# Altium footprint library QUAN.PcbLib: 216 footprints (part 12 of 14)
Each footprint in its own frame and in the unit in brackets; x right, y up, seen from the top. Pads: shape width x height; smd on the part's side, far side on the other; paste and mask are expansions set on the pad; w line width, h text height; cw(c..) or ccw(c..) is an arc to the next point about the centre after c.
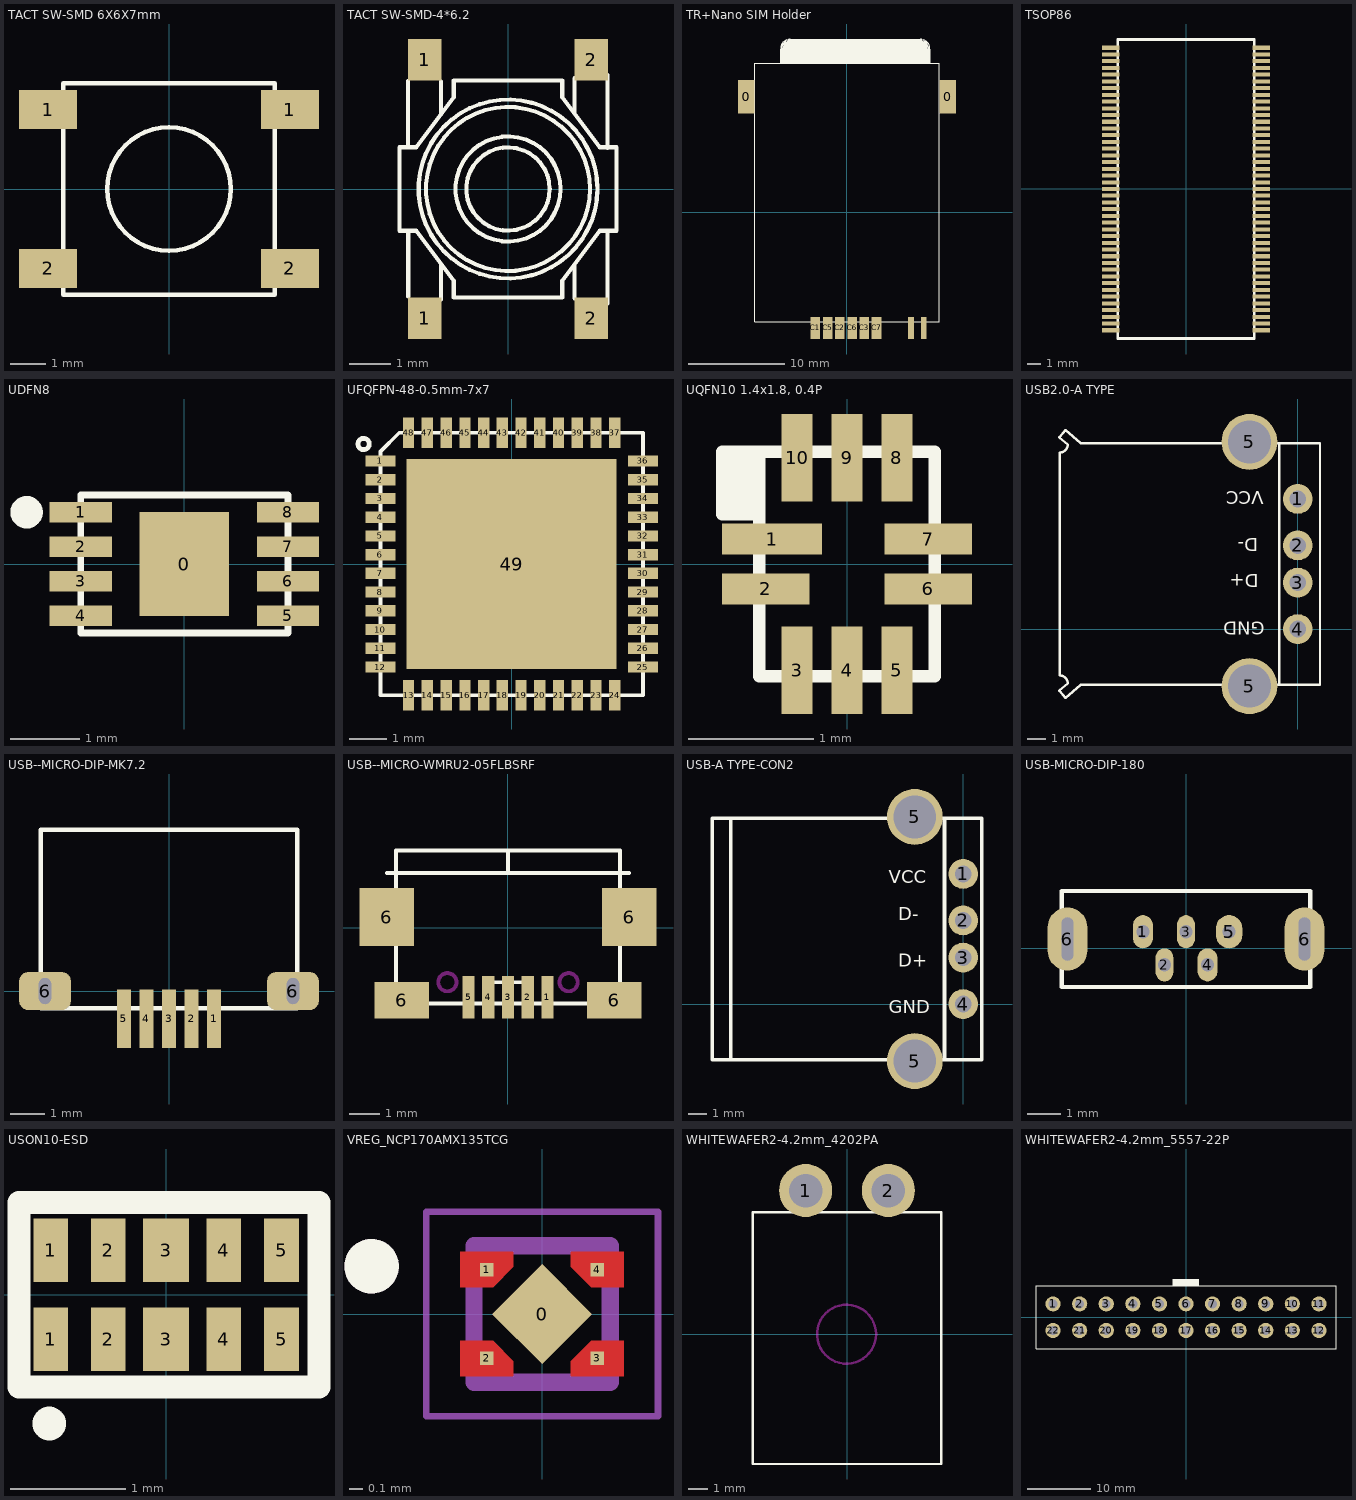
[diagram p11: the footprints below, top view; thin cyan lines are the x and y axes]

## TACT SW-SMD 6X6X7mm [mm] "TACT SW-SMD 6X6X7mm"
pads (4):
  rect 1.65x1.1 smd: 1(-3.425,2.25) 1(3.425,2.25) 2(-3.425,-2.25) 2(3.425,-2.25)
Top Overlay:
  circle w0.127: c0,0 r1.75
  lines w0.127: -3,-3 -3,3 3,3 3,-3 -3,-3

## TACT SW-SMD-4*6.2 [mm] "Switch-SMD-6x6mm"
pads (4):
  rect 0.8x1 smd: 1(-2,-3.1) 1(-2,3.1) 2(2,-3.1) 2(2,3.1)
Top Overlay:
  circle w0.1: c0,0 r1.969
  circle w0.1: c0,0 r2.146
  circle w0.1: c0,0 r1.26
  circle w0.1: c0,0 r1
  lines w0.1: -2.403,0.999 -2.403,2.593 ; -2.395,-2.578 -2.395,-1.009 ; -1.61,-2.656 -1.61,-1.794 ; -1.606,1.785 -1.606,2.582 ; 1.594,-2.623 1.594,-1.827 ; 1.594,1.809 1.594,2.66 ; 2.39,-2.744 2.39,-1.009 ; 2.39,0.991 2.39,2.737 ; -2.6,-1 -2.2,-1 -1.3,-2.2 -1.3,-2.6 1.3,-2.6 1.3,-2.2 2.2,-1 2.6,-1 2.6,1 2.2,1 1.3,2.2 1.3,2.6 -1.3,2.6 -1.3,2.2 -2.2,1 -2.6,1 -2.6,-1

## TR+Nano SIM Holder [mm] "TR+Nano SIM Holder"
pads (10):
  rect 1.7x3.5 smd: 0(-10.45,12) 0(10.45,12)
  rect 1x2.3 smd: C1(-3.28,-12) C2(-0.74,-12) C3(1.8,-12) C5(-2.01,-12) C6(0.53,-12) C7(3.07,-12)
  rect 0.6x2.3 smd: SW1(6.66,-12) SW2(7.96,-12)
Top Overlay:
  rectangle: -6.1,16.905 7.75,18.005
  rectangle: 7.725,16.935 8.27,17.67
  region: -6.03,17.669 -6.575,17.669 -6.575,16.934 -6.03,16.934
  rectangle: -6.967,15.5 8.66,16.98
  lines w0.127: -6.8,16.909 cw(c-5.955,16.909) -5.955,17.754 ; -6.8,17.034 cw(c-5.955,17.034) -5.955,17.879 ; -6.675,16.959 cw(c-5.83,16.959) -5.83,17.804 ; -6.575,16.934 cw(c-5.73,16.934) -5.73,17.779 ; 7.425,17.78 cw(c7.425,16.934) 8.27,16.934 ; 7.525,17.805 cw(c7.525,16.959) 8.37,16.959 ; 7.65,17.755 cw(c7.65,16.909) 8.495,16.909 ; 7.65,17.88 cw(c7.65,17.034) 8.495,17.034 ; 8.5,16.905 -6.9,16.905 cw(c-5.905,17.005) -5.905,18.005 7.6,18.005 cw(c7.6,17.005) 8.595,16.906 ; -9.6,-11.34 9.6,-11.34 9.6,15.5 -9.6,15.5 -9.6,-11.34

## TSOP86 [mm] "TSOP86"
pads (86):
  rect 1.3x0.3 smd: 1(-5.6,10.5) 2(-5.6,10) 3(-5.6,9.5) 4(-5.6,9) 5(-5.6,8.5) 6(-5.6,8) 7(-5.6,7.5) 8(-5.6,7) 9(-5.6,6.5) 10(-5.6,6) 11(-5.6,5.5) 12(-5.6,5) 13(-5.6,4.5) 14(-5.6,4) 15(-5.6,3.5) 16(-5.6,3) 17(-5.6,2.5) 18(-5.6,2) 19(-5.6,1.5) 20(-5.6,1) 21(-5.6,0.5) 22(-5.6,0) 23(-5.6,-0.5) 24(-5.6,-1) 25(-5.6,-1.5) 26(-5.6,-2) 27(-5.6,-2.5) 28(-5.6,-3) 29(-5.6,-3.5) 30(-5.6,-4) 31(-5.6,-4.5) 32(-5.6,-5) 33(-5.6,-5.5) 34(-5.6,-6) 35(-5.6,-6.5) 36(-5.6,-7) 37(-5.6,-7.5) 38(-5.6,-8) 39(-5.6,-8.5) 40(-5.6,-9) 41(-5.6,-9.5) 42(-5.6,-10) 43(-5.6,-10.5) 44(5.6,-10.5) 45(5.6,-10) 46(5.6,-9.5) 47(5.6,-9) 48(5.6,-8.5) 49(5.6,-8) 50(5.6,-7.5) 51(5.6,-7) 52(5.6,-6.5) 53(5.6,-6) 54(5.6,-5.5) 55(5.6,-5) 56(5.6,-4.5) 57(5.6,-4) 58(5.6,-3.5) 59(5.6,-3) 60(5.6,-2.5) 61(5.6,-2) 62(5.6,-1.5) 63(5.6,-1) 64(5.6,-0.5) 65(5.6,0) 66(5.6,0.5) 67(5.6,1) 68(5.6,1.5) 69(5.6,2) 70(5.6,2.5) 71(5.6,3) 72(5.6,3.5) 73(5.6,4) 74(5.6,4.5) 75(5.6,5) 76(5.6,5.5) 77(5.6,6) 78(5.6,6.5) 79(5.6,7) 80(5.6,7.5) 81(5.6,8) 82(5.6,8.5) 83(5.6,9) 84(5.6,9.5) 85(5.6,10) 86(5.6,10.5)
Top Overlay:
  lines w0.2: -5.08,-11.11 5.08,-11.11 5.08,11.11 -5.08,11.11 -5.08,-11.11

## UDFN8 [mm] "UDFN8"
pads (9):
  rect 1.3x1.5 smd mask+0.05: 0(0,0)
  rect 0.9x0.3 smd: 1(-1.5,0.75) 2(-1.5,0.25) 3(-1.5,-0.25) 4(-1.5,-0.75) 5(1.5,-0.75) 6(1.5,-0.25) 7(1.5,0.25) 8(1.5,0.75)
Top Overlay:
  circle w0.25: c-2.285,0.75 r0.11
  lines w0.1: -1.5,-1 -1.5,1 1.5,1 1.5,-1 -1.5,-1

## UFQFPN-48-0.5mm-7x7 [mm] "UFQFPN-48-0.5mm-7x7"
pads (49):
  rect 0.8x0.3 smd: 1(-3.5,2.75) 2(-3.5,2.25) 3(-3.5,1.75) 4(-3.5,1.25) 5(-3.5,0.75) 6(-3.5,0.25) 7(-3.5,-0.25) 8(-3.5,-0.75) 9(-3.5,-1.25) 10(-3.5,-1.75) 11(-3.5,-2.25) 12(-3.5,-2.75) 25(3.5,-2.75) 26(3.5,-2.25) 27(3.5,-1.75) 28(3.5,-1.25) 29(3.5,-0.75) 30(3.5,-0.25) 31(3.5,0.25) 32(3.5,0.75) 33(3.5,1.25) 34(3.5,1.75) 35(3.5,2.25) 36(3.5,2.75)
  rect 0.3x0.8 smd: 13(-2.75,-3.5) 14(-2.25,-3.5) 15(-1.75,-3.5) 16(-1.25,-3.5) 17(-0.75,-3.5) 18(-0.25,-3.5) 19(0.25,-3.5) 20(0.75,-3.5) 21(1.25,-3.5) 22(1.75,-3.5) 23(2.25,-3.5) 24(2.75,-3.5) 37(2.75,3.5) 38(2.25,3.5) 39(1.75,3.5) 40(1.25,3.5) 41(0.75,3.5) 42(0.25,3.5) 43(-0.25,3.5) 44(-0.75,3.5) 45(-1.25,3.5) 46(-1.75,3.5) 47(-2.25,3.5) 48(-2.75,3.5)
  rect 5.6x5.6 smd: 49(0,0)
Top Overlay:
  circle w0.127: c-3.95,3.2 r0.15
  lines w0.1: -3.5,-3.5 -3.5,3 -3,3.5 3.5,3.5 3.5,-3.5 -3.5,-3.5
Top Paste:
  rectangle: -2.1,0.25 -0.4,2.15
  rectangle: 0.3,0.25 2,2.15
  rectangle: -2.1,-2.15 -0.4,-0.25
  rectangle: 0.3,-2.15 2,-0.25

## UQFN10 1.4x1.8, 0.4P [mm] "UQFN10 1.4x1.8, 0.4P"
pads (10):
  rect 0.8x0.25 smd: 1(-0.6,0.2)
  rect 0.7x0.25 smd: 2(-0.65,-0.2) 6(0.65,-0.2) 7(0.65,0.2)
  rect 0.25x0.7 smd: 3(-0.4,-0.85) 4(0,-0.85) 5(0.4,-0.85) 8(0.4,0.85) 9(0,0.85) 10(-0.4,0.85)
Top Overlay:
  rectangle: -1,0.4 -0.675,0.9
  lines w0.1: -0.7,0.4 -1,0.4 -1,0.9 -0.7,0.9 ; -0.7,0.9 0.7,0.9 0.7,-0.9 -0.7,-0.9 -0.7,0.9

## USB2.0-A TYPE [mm] "USB2.0-A TYPE"
pads (6):
  round 1.6 hole 0.9: 1(0,7) 2(0,4.5) 3(0,2.5) 4(0,0)
  round 3 hole 2.3: 5(-2.6,-3.07) 5(-2.6,10.07)
Top Overlay:
  lines w0.127: -11.685,-3.002 -12.49,-3.711 -12.828,-3.317 -12.375,-2.925 ccw(c-12.8,-2.925) -12.8,-2.5 -12.8,9.5 ccw(c-12.8,9.925) -12.375,9.925 -12.828,10.317 -12.49,10.711 -11.685,10.002 ; -11.685,-3 1.2,-3 1.2,10 -11.685,10 ; -1,-3 -1,10
  text "VCC" at -1.825,7.425 h0.7
  text "GND" at -1.775,0.4 h0.7
  text "D-" at -2.125,4.875 h0.7
  text "D+" at -2.1,2.95 h0.7

## USB--MICRO-DIP-MK7.2 [mm] "USB--MICRO-DIP-MK7.2"
pads (7):
  rect 0.4x1.7 smd: 1(1.3,-0.8) 2(0.65,-0.8) 3(0,-0.8) 4(-0.65,-0.8) 5(-1.3,-0.8)
  rrect50% 1.5x1.1 hole 0.35 slot 0.75 at 90 deg: 6(-3.575,0) 6(3.575,0)
Top Overlay:
  lines w0.127: -3.7,-0.5 -3.7,4.65 3.7,4.65 3.7,-0.5 -3.7,-0.5

## USB--MICRO-WMRU2-05FLBSRF [mm] "USB--MICRO-WMRU2-05FLBSRF"
pads (9):
  rect 0.4x1.4 smd: 1(1.3,-2.3) 2(0.65,-2.3) 3(0,-2.3) 4(-0.65,-2.3) 5(-1.3,-2.3)
  rect 1.8x1.9 smd: 6(-4,0.35) 6(4,0.35)
  rect 1.8x1.2 smd: 6(-3.5,-2.4) 6(3.5,-2.4)
Top Overlay:
  lines w0.127: -4,1.8 4,1.8 ; -0.5,-1.8 0.5,-1.8 ; 0,1.8 0,2.55 ; -3.7,-2.5 3.7,-2.5 3.7,2.55 -3.7,2.55 -3.7,-2.5
Keep-Out Layer:
  lines w0.127: -2.3,-1.8 cw(c-2,-1.8) -1.7,-1.8 cw(c-2,-1.8) -2.3,-1.8 ; 1.7,-1.8 cw(c2,-1.8) 2.3,-1.8 cw(c2,-1.8) 1.7,-1.8

## USB-A TYPE-CON2 [mm] "USB-A TYPE-CON2"
pads (6):
  round 1.6 hole 0.9: 1(0,7) 2(0,4.5) 3(0,2.5) 4(0,0)
  round 3 hole 2.3: 5(-2.6,-3.07) 5(-2.6,10.07)
Top Overlay:
  lines w0.203: -12.5,-3 -12.5,10 ; -1,-3 -1,10 ; -13.5,-3 -13.5,10 0,10 1,10 1,-3 0,-3 -13.5,-3
  text "D+" at -3.5,2 h0.7
  text "D-" at -3.5,4.5 h0.7
  text "GND" at -4,-0.5 h0.7
  text "VCC" at -4,6.5 h0.7

## USB-MICRO-DIP-180 [mm] "USB-MICRO-DIP-180"
pads (7):
  oval 0.6x1 hole 0.4: 1(-1.3,0.5) 4(0.65,-0.5)
  oval 0.533x1 hole 0.4: 2(-0.65,-0.5) 3(0,0.5)
  oval 0.8x1 hole 0.4: 5(1.3,0.5)
  oval 1.2x1.9 hole 0.35 slot 1.3 at 90 deg: 6(-3.575,0.28) 6(3.575,0.28)
Top Overlay:
  lines w0.127: -3.75,-1.17 -3.75,1.73 3.75,1.73 3.75,-1.17 -3.75,-1.17

## USON10-ESD [mm] "USON10-ESD"
pads (10):
  rect 0.3x0.55 smd: 1(-1,-0.385) 1(-1,0.385) 2(-0.5,-0.385) 2(-0.5,0.385) 4(0.5,-0.385) 4(0.5,0.385) 5(1,-0.385) 5(1,0.385)
  rect 0.4x0.55 smd: 3(0,-0.385) 3(0,0.385)
Top Overlay:
  circle w0.254: c-1.013,-1.117 r0.019
  lines w0.2: -1.275,-0.8 1.325,-0.8 1.325,0.8 -1.275,0.8 -1.275,-0.8

## VREG_NCP170AMX135TCG [mm]
pads (5):
  rect 0.52x0.52 smd rot 45: 0(0,0)
  rect 0.1x0.1 smd paste-1 mask+0: 1(-0.405,0.325) 2(-0.405,-0.325) 3(0.405,-0.325) 4(0.405,0.325)
Top Layer:
  region: 0.6,0.195 0.36,0.195 0.21,0.345 0.21,0.455 0.6,0.455
  region: 0.6,-0.455 0.21,-0.455 0.21,-0.345 0.36,-0.195 0.6,-0.195
  region: -0.21,-0.345 -0.21,-0.455 -0.6,-0.455 -0.6,-0.195 -0.36,-0.195
  region: -0.21,0.345 -0.36,0.195 -0.6,0.195 -0.6,0.455 -0.21,0.455
Top Overlay:
  circle w0.2: c-1.25,0.35 r0.1
Top Paste:
  region: 0.6,0.195 0.36,0.195 0.21,0.345 0.21,0.455 0.6,0.455
  region: 0.6,-0.455 0.21,-0.455 0.21,-0.345 0.36,-0.195 0.6,-0.195
  region: -0.21,-0.345 -0.21,-0.455 -0.6,-0.455 -0.6,-0.195 -0.36,-0.195
  region: -0.21,0.345 -0.36,0.195 -0.6,0.195 -0.6,0.455 -0.21,0.455
Top Solder:
  region: 0.65,0.145 0.335,0.145 0.16,0.32 0.16,0.505 0.65,0.505
  region: 0.65,-0.505 0.16,-0.505 0.16,-0.32 0.335,-0.145 0.65,-0.145
  region: -0.16,-0.32 -0.16,-0.505 -0.65,-0.505 -0.65,-0.145 -0.335,-0.145
  region: -0.16,0.32 -0.335,0.145 -0.65,0.145 -0.65,0.505 -0.16,0.505
Mechanical 13:
  circle w0.2: c-1.25,0.35 r0.1
  lines w0.127: -0.5,-0.5 0.5,-0.5 0.5,0.5 -0.5,0.5 -0.5,-0.5
Mechanical 15:
  lines w0.05: -0.85,-0.75 -0.85,0.75 0.85,0.75 0.85,-0.75 -0.85,-0.75
3D body "step_temp.STEP": height 0.38, standoff -0.05, extent -0.5,-0.5 0.5,0.5

## WHITEWAFER2-4.2mm_4202PA [mm] "WHITEWAFER2-4.2mm_4202PA"
pads (2):
  round 2.7 hole 1.7: 1(-2.1,7.3) 2(2.1,7.3)
Top Overlay:
  lines w0.127: -4.8,-6.6 4.8,-6.6 4.8,6.2 -4.8,6.2 -4.8,-6.6
Keep-Out Layer:
  circle w0.127: c-0.025,0 r1.5

## WHITEWAFER2-4.2mm_5557-22P [mm] "WHITEWAFER2-4.2mm_5557-22P"
pads (22):
  round 2.4 hole 1.4: 1(-21,2.1) 2(-16.8,2.1) 3(-12.6,2.1) 4(-8.4,2.1) 5(-4.2,2.1) 6(0,2.1) 7(4.2,2.1) 8(8.4,2.1) 9(12.6,2.1) 10(16.8,2.1) 11(21,2.1) 12(21,-2.1) 13(16.8,-2.1) 14(12.6,-2.1) 15(8.4,-2.1) 16(4.2,-2.1) 17(0,-2.1) 18(-4.2,-2.1) 19(-8.4,-2.1) 20(-12.6,-2.1) 21(-16.8,-2.1) 22(-21,-2.1)
Top Overlay:
  rectangle: -2,5 1.95,6
  lines w0.127: -2,5 -2,6 2,6 2,5 ; -23.7,-5 -23.7,5 23.7,5 23.7,-5 -23.7,-5